# EAGLE library part LED_MATRIX_5X7_SINGLE_COMA (library mylib_20130829)
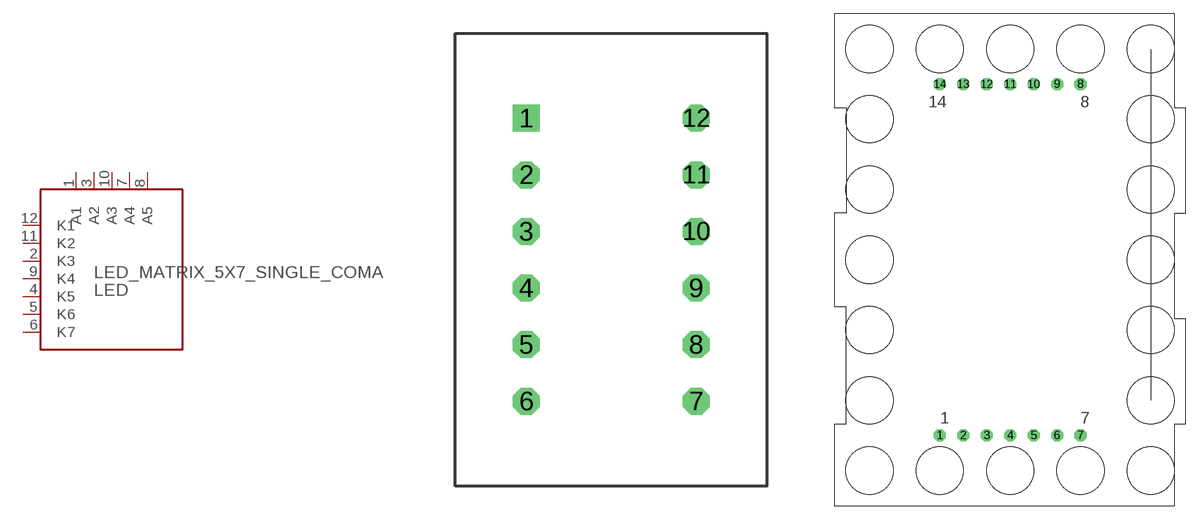
[diagram p33: symbol with the pads of LED_MATRIX_5X7_R; footprints LED_MATRIX_5X7_R, LED_MATRIX_5X7_TA20-11]

Designator prefix LED

## LED_MATRIX_5X7_SINGLE_COMA  [LED_MATRIX_5X7_R]
1  A1
2  K3
3  A2
4  K5
5  K6
6  K7
7  A4
8  A5
9  K4
10  A3
11  K2
12  K1

## LED_MATRIX_5X7_SINGLE_COMA_TA20-11  [LED_MATRIX_5X7_TA20-11]
1  K5
2  K7
3  A2
4  A3
6  A5
7  K6
8  K3
9  K1
10  A4
12  K4
13  A1
14  K2

## Footprint LED_MATRIX_5X7_R (pad centres in mm)
drill 0.7 square: 1 -3.81,6.35
drill 0.7 octagon: 2 -3.81,3.81; 3 -3.81,1.27; 4 -3.81,-1.27; 5 -3.81,-3.81; 6 -3.81,-6.35; 7 3.81,-6.35; 8 3.81,-3.81; 9 3.81,-1.27; 10 3.81,1.27; 11 3.81,3.81; 12 3.81,6.35

## Footprint LED_MATRIX_5X7_TA20-11 (pad centres in mm)
drill 0.8 octagon: 1 -7.62,-19.05; 2 -5.08,-19.05; 3 -2.54,-19.05; 4 0,-19.05; 5 2.54,-19.05; 6 5.08,-19.05; 7 7.62,-19.05; 8 7.62,19.05; 9 5.08,19.05; 10 2.54,19.05; 11 0,19.05; 12 -2.54,19.05; 13 -5.08,19.05; 14 -7.62,19.05